# Altium integrated library MergenElektronik_Connectors_TerminalConnectors_BarrierBlocks.IntLib: 3 symbols
Pins are listed as number, name and electrical type; pins without a type are passive.

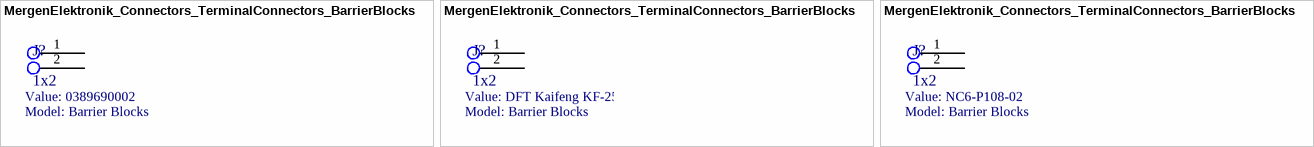
[diagram p0: symbols MergenElektronik_Connectors_TerminalConnectors_BarrierBlocks_0389690002 to MergenElektronik_Connectors_TerminalConnectors_BarrierBlocks_NC6-P108-02]

## MergenElektronik_Connectors_TerminalConnectors_BarrierBlocks_0389690002
designator J?, comment 1x2  value 0389690002  Model: Barrier Blocks
Mergen Elektronik - Connectors - Terminals - Barrier Blocks - 1x2 - 0389690002; Manufacturer: Molex; Voltage Rating: 600V; Current Rating: 50A; Digi-Key Number: WM7469-ND; Manufacturer Number: 0389690002; Mounting Type: THT; Temperature: -40°C up to 120°C; Farnell Number: 2316726; Package: 0389690002; Mouser Number: 538-38969-0002; Supplier 1: Digi-Key; Supplier 2: Mouser; Supplier Part Number 1: WM7469-ND; Supplier Part Number 2: 538-38969-0002
footprint MergenElektronik_Connectors_TerminalConnectors_BarrierBlocks_0389690002 (0389690002)
pins: 1, 2

## MergenElektronik_Connectors_TerminalConnectors_BarrierBlocks_DFTKaifengKF-25
designator J?, comment 1x2  value DFT Kaifeng KF-25  Model: Barrier Blocks
Mergen Elektronik - Connectors - Terminals - Barrier Blocks - 1x2 - DFT Kaifeng KF-25; Manufacturer Number: KF25C; Voltage Rating: 300V; Current Rating: 15A; Robolink Number: RLA6A25-6478; Manufacturer: DFT Kaifeng; Mounting Type: THT; Temperature: -40°C up to 105°C; Package: DFT Kaifeng KF-25
footprint MergenElektronik_Connectors_TerminalConnectors_BarrierBlocks_DFTKaifengKF-25 (DFT Kaifeng KF-25)
pins: 1, 2

## MergenElektronik_Connectors_TerminalConnectors_BarrierBlocks_NC6-P108-02
designator J?, comment 1x2  value NC6-P108-02  Model: Barrier Blocks
Mergen Elektronik - Connectors - Terminals - Barrier Blocks - 1x2 -NC6-P108-02; Manufacturer: TE Connectivity AMP Connectors; Voltage Rating: 300V; Current Rating: 20A; Digi-Key Number: A98495-ND; Manufacturer Number: NC6-P108-02; Mounting Type: THT; Temperature: -40°C up to 105°C; Farnell Number: 1408124; Supplier 1: Digi-Key; Supplier Part Number 1: A98495-ND; Supplier 2: Mouser; Supplier Part Number 2: 571-314376640; Package: NC6-P108-02
footprint MergenElektronik_Connectors_TerminalConnectors_BarrierBlocks_NC6-P108-02 (NC6-P108-02 - 1x2)
pins: 1, 2